# Altium footprint library MicroUSB.PcbLib: 1 footprints
Each footprint in its own frame and in the unit in brackets; x right, y up, seen from the top. Pads: shape width x height; smd on the part's side, far side on the other; paste and mask are expansions set on the pad; w line width, h text height; cw(c..) or ccw(c..) is an arc to the next point about the centre after c.
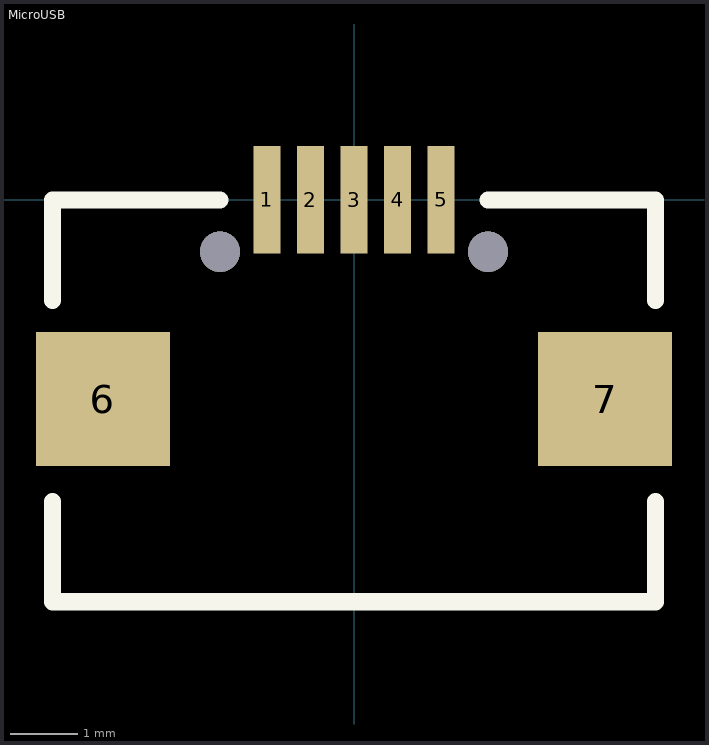
[diagram p0: the footprint, top view; thin cyan lines are the x and y axes]

## MicroUSB [mm]
pads (7):
  rect 0.4x1.6 smd: 1(-1.3,0) 2(-0.65,0) 3(0,0) 4(0.65,0) 5(1.3,0)
  rect 2x2 smd: 6(-3.75,-2.975) 7(3.75,-2.975)
via 2,-0.775 diameter 0.6 hole 0.6
via -2,-0.775 diameter 0.6 hole 0.6
Top Overlay:
  lines w0.254: -4.5,-4.5 -4.5,-6 4.5,-6 4.5,-4.5 ; -4.5,-1.5 -4.5,0 -2,0 ; 2,0 4.5,0 4.5,-1.5